# EAGLE library part STM32F030C8T6 (library jhbruhn-mcu)
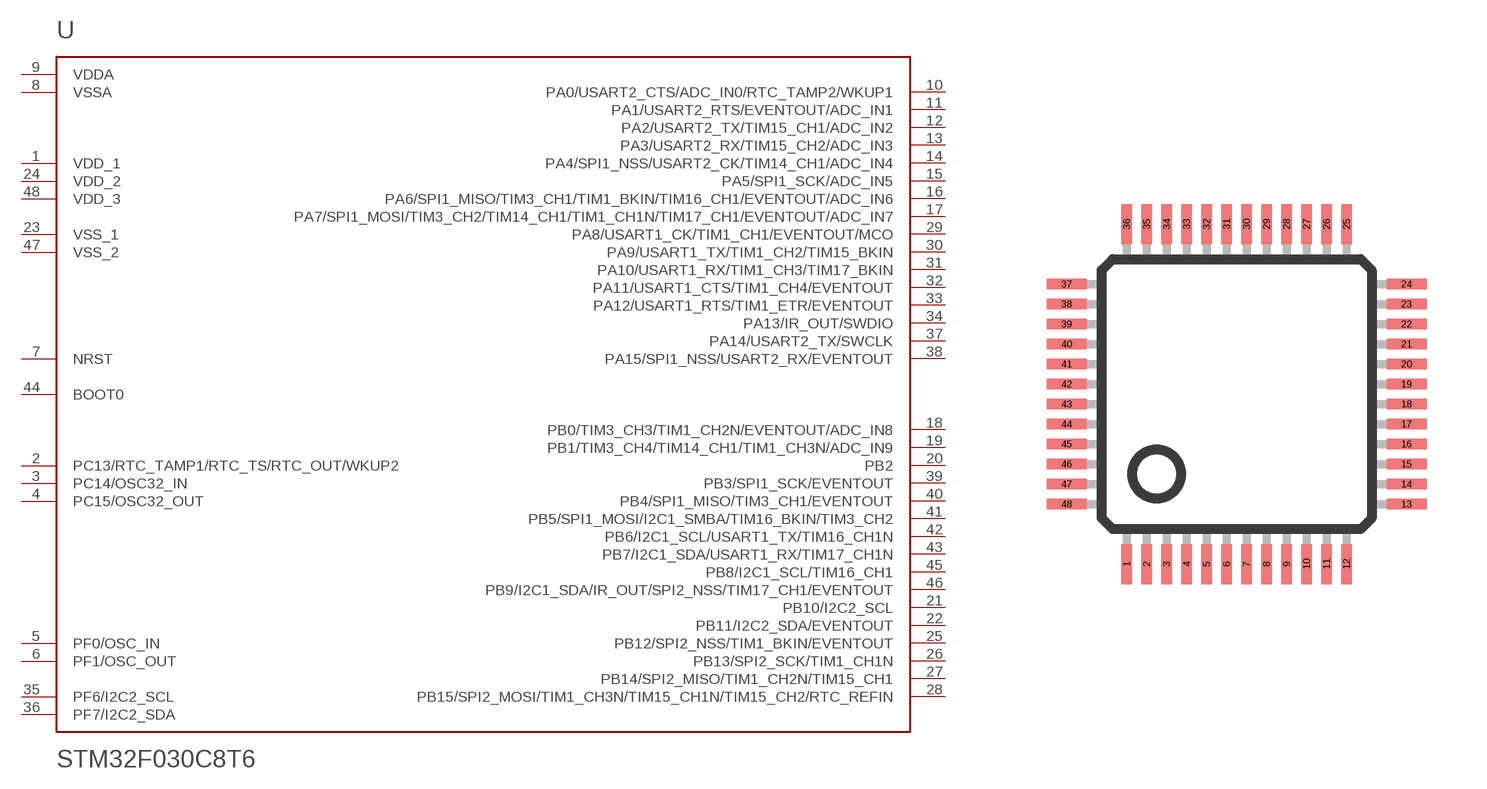
[diagram p2: symbol with the pads of LQFP48; footprint LQFP48]

Designator prefix U

## STM32F030C8T6  [LQFP48]
1  VDD_1  pwr
2  PC13/RTC_TAMP1/RTC_TS/RTC_OUT/WKUP2
3  PC14/OSC32_IN
4  PC15/OSC32_OUT
5  PF0/OSC_IN
6  PF1/OSC_OUT
7  NRST
8  VSSA  pwr
9  VDDA  pwr
10  PA0/USART2_CTS/ADC_IN0/RTC_TAMP2/WKUP1
11  PA1/USART2_RTS/EVENTOUT/ADC_IN1
12  PA2/USART2_TX/TIM15_CH1/ADC_IN2
13  PA3/USART2_RX/TIM15_CH2/ADC_IN3
14  PA4/SPI1_NSS/USART2_CK/TIM14_CH1/ADC_IN4
15  PA5/SPI1_SCK/ADC_IN5
16  PA6/SPI1_MISO/TIM3_CH1/TIM1_BKIN/TIM16_CH1/EVENTOUT/ADC_IN6
17  PA7/SPI1_MOSI/TIM3_CH2/TIM14_CH1/TIM1_CH1N/TIM17_CH1/EVENTOUT/ADC_IN7
18  PB0/TIM3_CH3/TIM1_CH2N/EVENTOUT/ADC_IN8
19  PB1/TIM3_CH4/TIM14_CH1/TIM1_CH3N/ADC_IN9
20  PB2
21  PB10/I2C2_SCL
22  PB11/I2C2_SDA/EVENTOUT
23  VSS_1  pwr
24  VDD_2  pwr
25  PB12/SPI2_NSS/TIM1_BKIN/EVENTOUT
26  PB13/SPI2_SCK/TIM1_CH1N
27  PB14/SPI2_MISO/TIM1_CH2N/TIM15_CH1
28  PB15/SPI2_MOSI/TIM1_CH3N/TIM15_CH1N/TIM15_CH2/RTC_REFIN
29  PA8/USART1_CK/TIM1_CH1/EVENTOUT/MCO
30  PA9/USART1_TX/TIM1_CH2/TIM15_BKIN
31  PA10/USART1_RX/TIM1_CH3/TIM17_BKIN
32  PA11/USART1_CTS/TIM1_CH4/EVENTOUT
33  PA12/USART1_RTS/TIM1_ETR/EVENTOUT
34  PA13/IR_OUT/SWDIO
35  PF6/I2C2_SCL
36  PF7/I2C2_SDA
37  PA14/USART2_TX/SWCLK
38  PA15/SPI1_NSS/USART2_RX/EVENTOUT
39  PB3/SPI1_SCK/EVENTOUT
40  PB4/SPI1_MISO/TIM3_CH1/EVENTOUT
41  PB5/SPI1_MOSI/I2C1_SMBA/TIM16_BKIN/TIM3_CH2
42  PB6/I2C1_SCL/USART1_TX/TIM16_CH1N
43  PB7/I2C1_SDA/USART1_RX/TIM17_CH1N
44  BOOT0
45  PB8/I2C1_SCL/TIM16_CH1  pwr
46  PB9/I2C1_SDA/IR_OUT/SPI2_NSS/TIM17_CH1/EVENTOUT  pwr
47  VSS_2  pwr
48  VDD_3  pwr

## Footprint LQFP48 (pad centres in mm)
smd 0.254 x 1: 1 -2.75,-4.25; 2 -2.25,-4.25; 3 -1.75,-4.25; 4 -1.25,-4.25; 5 -0.75,-4.25; 6 -0.25,-4.25; 7 0.25,-4.25; 8 0.75,-4.25; 9 1.25,-4.25; 10 1.75,-4.25; 11 2.25,-4.25; 12 2.75,-4.25; 25 2.75,4.25; 26 2.25,4.25; 27 1.75,4.25; 28 1.25,4.25; 29 0.75,4.25; 30 0.25,4.25; 31 -0.25,4.25; 32 -0.75,4.25; 33 -1.25,4.25; 34 -1.75,4.25; 35 -2.25,4.25; 36 -2.75,4.25
smd 1 x 0.254: 13 4.25,-2.75; 14 4.25,-2.25; 15 4.25,-1.75; 16 4.25,-1.25; 17 4.25,-0.75; 18 4.25,-0.25; 19 4.25,0.25; 20 4.25,0.75; 21 4.25,1.25; 22 4.25,1.75; 23 4.25,2.25; 24 4.25,2.75; 37 -4.25,2.75; 38 -4.25,2.25; 39 -4.25,1.75; 40 -4.25,1.25; 41 -4.25,0.75; 42 -4.25,0.25; 43 -4.25,-0.25; 44 -4.25,-0.75; 45 -4.25,-1.25; 46 -4.25,-1.75; 47 -4.25,-2.25; 48 -4.25,-2.75